# Altium footprint library Coilcraft SER2010-122MX.PcbLib: 1 footprints
Each footprint in its own frame and in the unit in brackets; x right, y up, seen from the top. Pads: shape width x height; smd on the part's side, far side on the other; paste and mask are expansions set on the pad; w line width, h text height; cw(c..) or ccw(c..) is an arc to the next point about the centre after c.
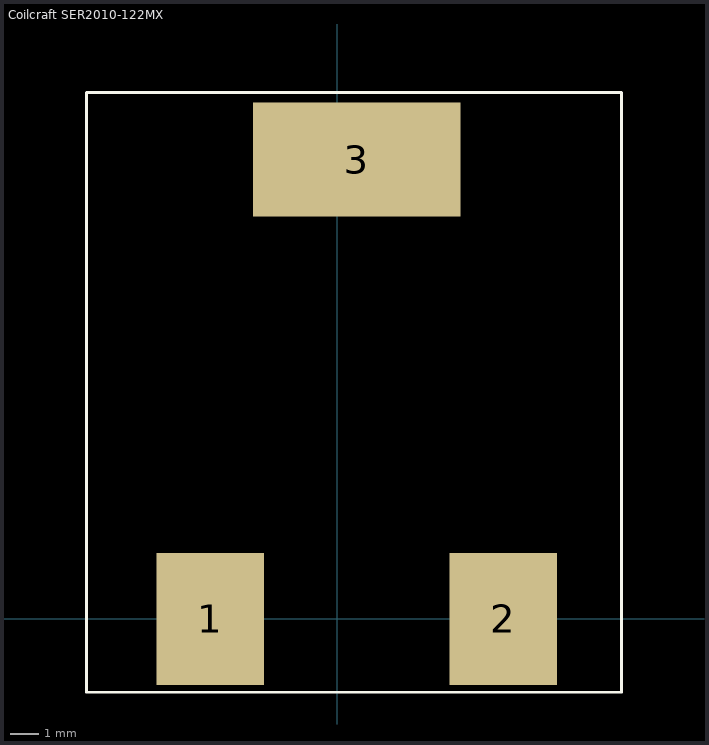
[diagram p0: the footprint, top view; thin cyan lines are the x and y axes]

## Coilcraft SER2010-122MX [mm]
pads (3):
  rect 3.81x4.7 smd: 1(-4.51,0) 2(5.9,0)
  rect 7.37x4.06 smd: 3(0.7,16.315)
Top Overlay:
  lines w0.1: -8.9,18.7 -8.9,-2.6 10.1,-2.6 10.1,18.7 ; -8.9,18.7 -8.9,18.7 ; -8.9,18.7 10.1,18.7 ; 10.1,18.7 10.1,18.7